# EAGLE library part BT0417C (library BT0471C_bluetooth)
BT0417C Bluetooth Module
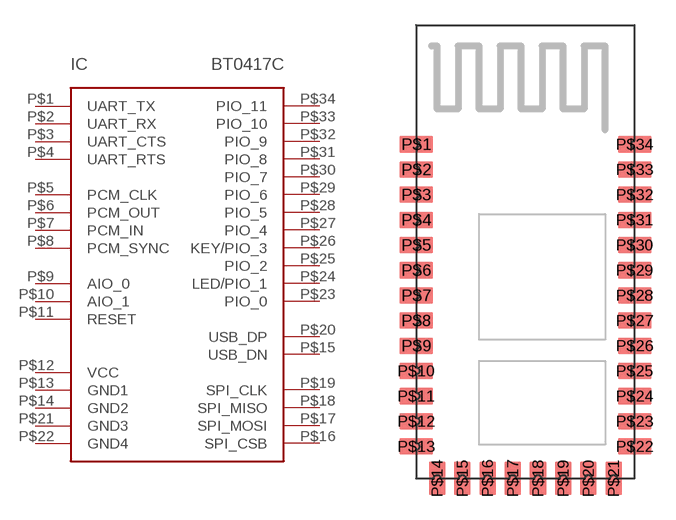
[diagram p0: symbol with the pads of BT0417C; footprint BT0417C]

Designator prefix IC

## BT0417C  [BT0417C]
P$1  UART_TX
P$2  UART_RX
P$3  UART_CTS
P$4  UART_RTS
P$5  PCM_CLK
P$6  PCM_OUT
P$7  PCM_IN
P$8  PCM_SYNC
P$9  AIO_0
P$10  AIO_1
P$11  RESET  in
P$12  VCC  pwr
P$13  GND1  pwr
P$14  GND2  pwr
P$15  USB_DN
P$16  SPI_CSB
P$17  SPI_MOSI
P$18  SPI_MISO
P$19  SPI_CLK
P$20  USB_DP
P$21  GND3  pwr
P$22  GND4  pwr
P$23  PIO_0
P$24  LED/PIO_1
P$25  PIO_2
P$26  KEY/PIO_3
P$27  PIO_4
P$28  PIO_5
P$29  PIO_6
P$30  PIO_7
P$31  PIO_8
P$32  PIO_9
P$33  PIO_10
P$34  PIO_11

## Footprint BT0417C (pad centres in mm)
smd 2 x 1: P$1 -6.5,6.9; P$2 -6.5,5.4; P$3 -6.5,3.9; P$4 -6.5,2.4; P$5 -6.5,0.9; P$6 -6.5,-0.6; P$7 -6.5,-2.1; P$8 -6.5,-3.6; P$9 -6.5,-5.1; P$10 -6.5,-6.6; P$11 -6.5,-8.1; P$12 -6.5,-9.6; P$13 -6.5,-11.1; P$22 6.5,-11.1; P$23 6.5,-9.6; P$24 6.5,-8.1; P$25 6.5,-6.6; P$26 6.5,-5.1; P$27 6.5,-3.6; P$28 6.5,-2.1; P$29 6.5,-0.6; P$30 6.5,0.9; P$31 6.5,2.4; P$32 6.5,3.9; P$33 6.5,5.4; P$34 6.5,6.9
smd 1 x 2: P$14 -5.25,-13; P$15 -3.75,-13; P$16 -2.25,-13; P$17 -0.75,-13; P$18 0.75,-13; P$19 2.25,-13; P$20 3.75,-13; P$21 5.25,-13